# Altium footprint library Passive.PcbLib: 12 footprints
Each footprint in its own frame and in the unit in brackets; x right, y up, seen from the top. Pads: shape width x height; smd on the part's side, far side on the other; paste and mask are expansions set on the pad; w line width, h text height; cw(c..) or ccw(c..) is an arc to the next point about the centre after c.
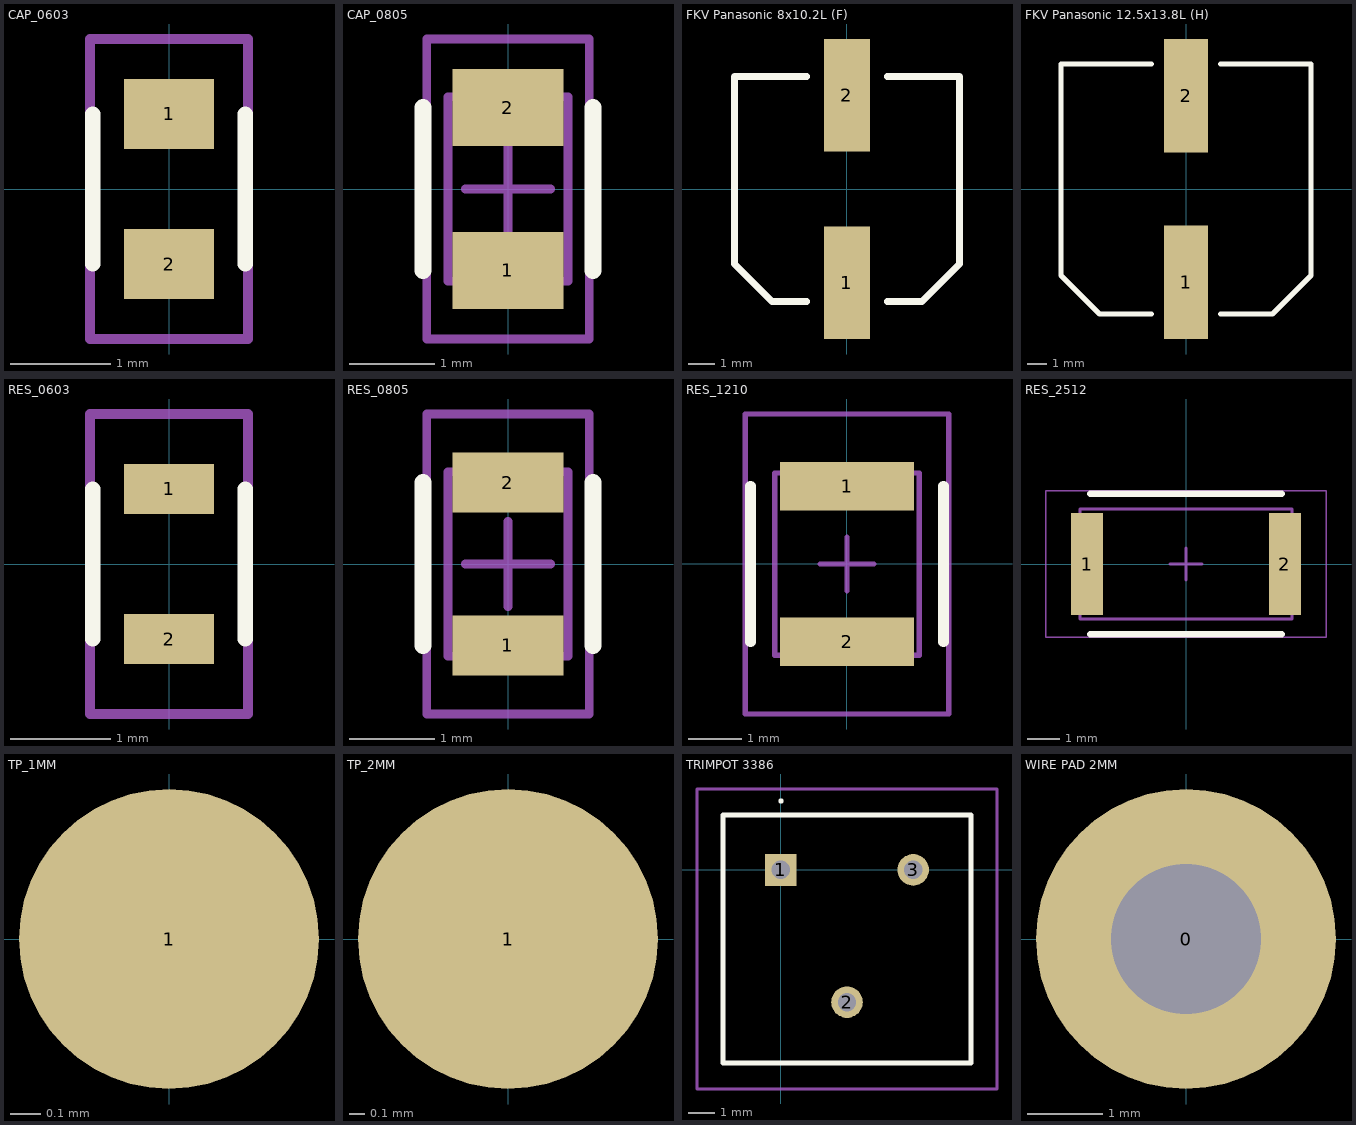
[diagram p0: the footprints below, top view; thin cyan lines are the x and y axes]

## CAP_0603 [mm] "Capacitor SMD 0603 EB"
pads (2):
  rect 0.9x0.7 smd: 1(0,0.75) 2(0,-0.75)
Top Overlay:
  lines w0.152: -0.762,-0.75 -0.762,0.75 ; 0.762,-0.75 0.762,0.75
Mechanical 15:
  lines w0.1: -0.787,-1.499 -0.787,0 -0.787,1.499 0.787,1.499 0.787,0 0.787,-1.499 -0.787,-1.499
3D body: height 0.56, standoff 0, extent -0.4,-0.85 0.4,0.85

## CAP_0805 [mm] "Capacitor SMD 0805 EB"
pads (2):
  rect 1.3x0.9 smd: 1(0,-0.95) 2(0,0.95)
Top Overlay:
  lines w0.2: -0.991,-0.95 -0.991,0.95 ; 0.991,-0.95 0.991,0.95
Mechanical 13:
  lines w0.1: -0.7,-1.075 -0.7,1.075 0.7,1.075 0.7,-1.075 -0.7,-1.075
Mechanical 15:
  lines w0.1: -0.5,0 0.5,0 ; 0,-0.5 0,0.5 ; -0.95,-1.75 -0.95,1.75 0.95,1.75 0.95,-1.75 -0.95,-1.75
3D body: height 0.7, standoff 0, extent -0.7,-1.075 0.7,1.075

## FKV Panasonic 8x10.2L (F) [mm]
pads (2):
  rect 1.7x4.2 smd: 1(0,-3.5) 2(0,3.5)
Top Overlay:
  lines w0.254: -1.5,-4.2 -2.8,-4.2 -4.2,-2.8 -4.2,4.2 -1.5,4.2 ; 1.5,-4.2 2.8,-4.2 4.2,-2.8 4.2,4.2 1.5,4.2
3D body: height 0, standoff 0, extent -4.327,-4.327 4.327,4.327
3D body: height 10.2, standoff 0, extent -4.15,-4.85 4.15,4.85

## FKV Panasonic 12.5x13.8L (H) [mm]
pads (2):
  rect 2.3x5.9 smd: 1(0,-4.85) 2(0,4.85)
Top Overlay:
  lines w0.254: -1.8,-6.5 -4.5,-6.5 -6.5,-4.5 -6.5,6.5 -1.8,6.5 ; 1.8,-6.5 4.5,-6.5 6.5,-4.5 6.5,6.5 1.8,6.5
3D body: height 0, standoff 0, extent -6.627,-6.627 6.627,6.627

## RES_0603 [mm] "Resistor SMD 0603 EB"
pads (2):
  rect 0.9x0.5 smd: 1(0,0.75) 2(0,-0.75)
Top Overlay:
  lines w0.152: -0.762,-0.75 -0.762,0.75 ; 0.762,-0.75 0.762,0.75
Mechanical 15:
  lines w0.1: -0.787,-1.499 0.787,-1.499 0.787,0 0.787,1.499 -0.787,1.499 -0.787,0 -0.787,-1.499
3D body: height 0.56, standoff 0, extent -0.4,-0.85 0.4,0.85

## RES_0805 [mm] "Resistor SMD 0805 EB"
pads (2):
  rect 1.3x0.7 smd: 1(0,-0.95) 2(0,0.95)
Top Overlay:
  lines w0.2: -0.991,-0.95 -0.991,0.95 ; 0.991,-0.95 0.991,0.95
Mechanical 13:
  lines w0.1: -0.7,-1.075 0.7,-1.075 0.7,1.075 -0.7,1.075 -0.7,-1.075
Mechanical 15:
  lines w0.1: -0.5,0 0.5,0 ; 0,-0.5 0,0.5 ; -0.95,-1.75 0.95,-1.75 0.95,1.75 -0.95,1.75 -0.95,-1.75
3D body: height 0.7, standoff 0, extent -0.7,-1.075 0.7,1.075

## RES_1210 [mm] "Resistor SMD 1210 EB"
pads (2):
  rect 2.5x0.9 smd: 1(0,1.45) 2(0,-1.45)
Top Overlay:
  lines w0.2: -1.8,-1.45 -1.8,1.45 ; 1.8,-1.45 1.8,1.45
Mechanical 13:
  lines w0.1: -1.35,-1.7 1.35,-1.7 1.35,1.7 -1.35,1.7 -1.35,-1.7
Mechanical 15:
  lines w0.1: -0.5,0 0.5,0 ; 0,-0.5 0,0.5 ; -1.9,-2.8 1.9,-2.8 1.9,2.8 -1.9,2.8 -1.9,-2.8
3D body: height 1.5, standoff 0, extent -1.35,-1.7 1.35,1.7

## RES_2512 [mm] "Resistor SMD 2512 EB"
height 1.2
pads (2):
  rect 1x3.2 smd: 1(-3.1,0) 2(3.1,0)
Top Overlay:
  lines w0.2: -3,-2.2 3,-2.2 ; -3,2.2 3,2.2
Mechanical 13:
  lines w0.1: -3.325,-1.725 -3.325,1.725 3.325,1.725 3.325,-1.725 -3.325,-1.725
Mechanical 15:
  lines w0.05: -4.4,-2.3 -4.4,2.3 4.4,2.3 4.4,-2.3 -4.4,-2.3
  lines w0.1: -0.5,0 0.5,0 ; 0,-0.5 0,0.5
3D body: height 0.9, standoff 0, extent -2.275,-1.725 2.275,1.725
3D body: height 0.9, standoff 0, extent -3.325,-1.725 -2.275,1.725
3D body: height 0.9, standoff 0, extent 2.275,-1.725 3.325,1.725

## TP_1MM [mm]
pads (1):
  round 1 smd paste-0.5 mask+0: 1(0,0)

## TP_2MM [mm]
pads (1):
  round 2 smd paste-0.5 mask+0: 1(0,0)

## TRIMPOT 3386 [mm]
pads (3):
  rect 1.217x1.217 hole 0.71: 1(0,0)
  round 1.217 hole 0.71: 2(2.54,-5.08) 3(5.08,0)
Top Overlay:
  lines w0.1: 0,2.6 cw(c0,2.65) 0,2.7 cw(c0,2.65) 0,2.6
  lines w0.2: -2.225,-7.42 -2.225,2.11 7.305,2.11 7.305,-7.42 -2.225,-7.42
Mechanical 15:
  lines w0.1: -2.225,-7.42 -2.225,2.11 7.305,2.11 7.305,-7.42 -2.225,-7.42
Mechanical 20:
  lines w0.1: -3.225,-8.42 -3.225,3.11 8.305,3.11 8.305,-8.42 -3.225,-8.42
3D body: height 5, standoff -5.92, extent -2.248,-7.29 7.328,2.286

## WIRE PAD 2MM [mm]
pads (1):
  round 4 hole 2: 0(0,0)